# EAGLE library part 693071010811 (library Wurth_Connectors_WR-CRD)
WR-CRD Micro SD Card Connector Push & Push 8 pins KIND PROPERTIES Quality Class 10 000 Mating cycles Gender Socket Type Push & Push General Information Operating Temperature -25 up to +85 °C; -40 up to +85 °C Compliance RoHS Electrical Properties Working Voltage 30 V (AC); 100 V (AC) Withstanding Voltage 500 V (AC) Contact Resistance 100 mΩ Contact Resistance 500 mΩ Material Properties Insulator Material LCP Insulator Flammability Rating UL94 V-0 Insulator Color Black Color Black Cover Material Stainless Steel Contact Material Copper Alloy Contact Plating 1 u' on contact area; Selective Gold Contact Type Stamped <hhttps://www.we-online.com/components/media/o32845v209%20Family_ConCRD_693071010811.jpg> Details see: www.we-online.com/en/components/products/CRD_SD_MICRO_PUSH_AND_PULL_8_PINS Created by Yingchun,Shan 2019-11-22 2019 (C) Würth Elektronik
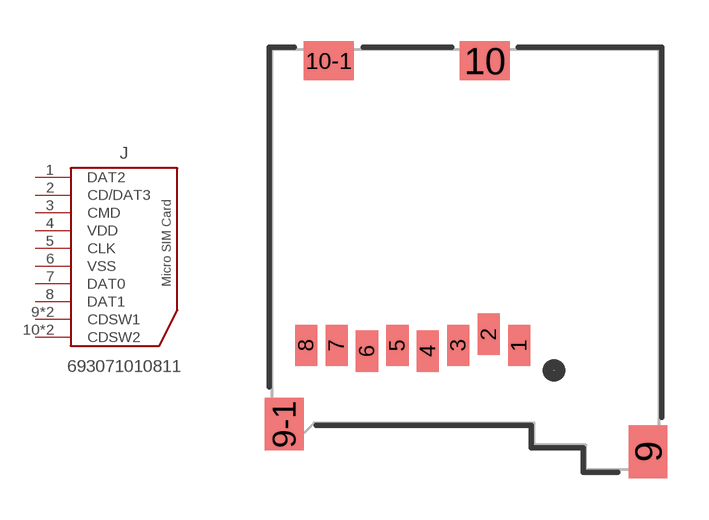
[diagram p10: symbol with the pads of 693071010811; footprint 693071010811]

Designator prefix J

## 693071010811 (DATASHEET-URL: https://www.we-online.com/redexpert/spec/693071010811?ae; GERDER: Socket; IR: 0.5A; MOUNT: SMT; PART-NUMBER: 693071010811; PINS: 8; TYPE: Push & Push; VALUE: 693071010811; WORKING-VOLTAGE: 100V(AC))  [693071010811]
1  DAT2
2  CD/DAT3
3  CMD
4  VDD
5  CLK
6  VSS
7  DAT0
8  DAT1
9  CDSW1
9-1  CDSW1
10  CDSW2
10-1  CDSW2

## Footprint 693071010811 (pad centres in mm)
WR-CRD Micro SD Card Connector Push & Push 8 pins
smd 0.8 x 1.5: 1 1.94,-3.1; 2 0.84,-2.7; 3 -0.26,-3.1; 4 -1.36,-3.3; 5 -2.46,-3.1; 6 -3.56,-3.3; 7 -4.66,-3.1; 8 -5.76,-3.1
smd 1.4 x 1.9: 9 6.6,-6.95; 9-1 -6.55,-5.95
smd 1.8 x 1.4: 10 0.7,7.2; 10-1 -4.95,7.2